# Altium footprint library FootprintsComponentsPreCharge.PcbLib: 11 footprints
Each footprint in its own frame and in the unit in brackets; x right, y up, seen from the top. Pads: shape width x height; smd on the part's side, far side on the other; paste and mask are expansions set on the pad; w line width, h text height; cw(c..) or ccw(c..) is an arc to the next point about the centre after c.
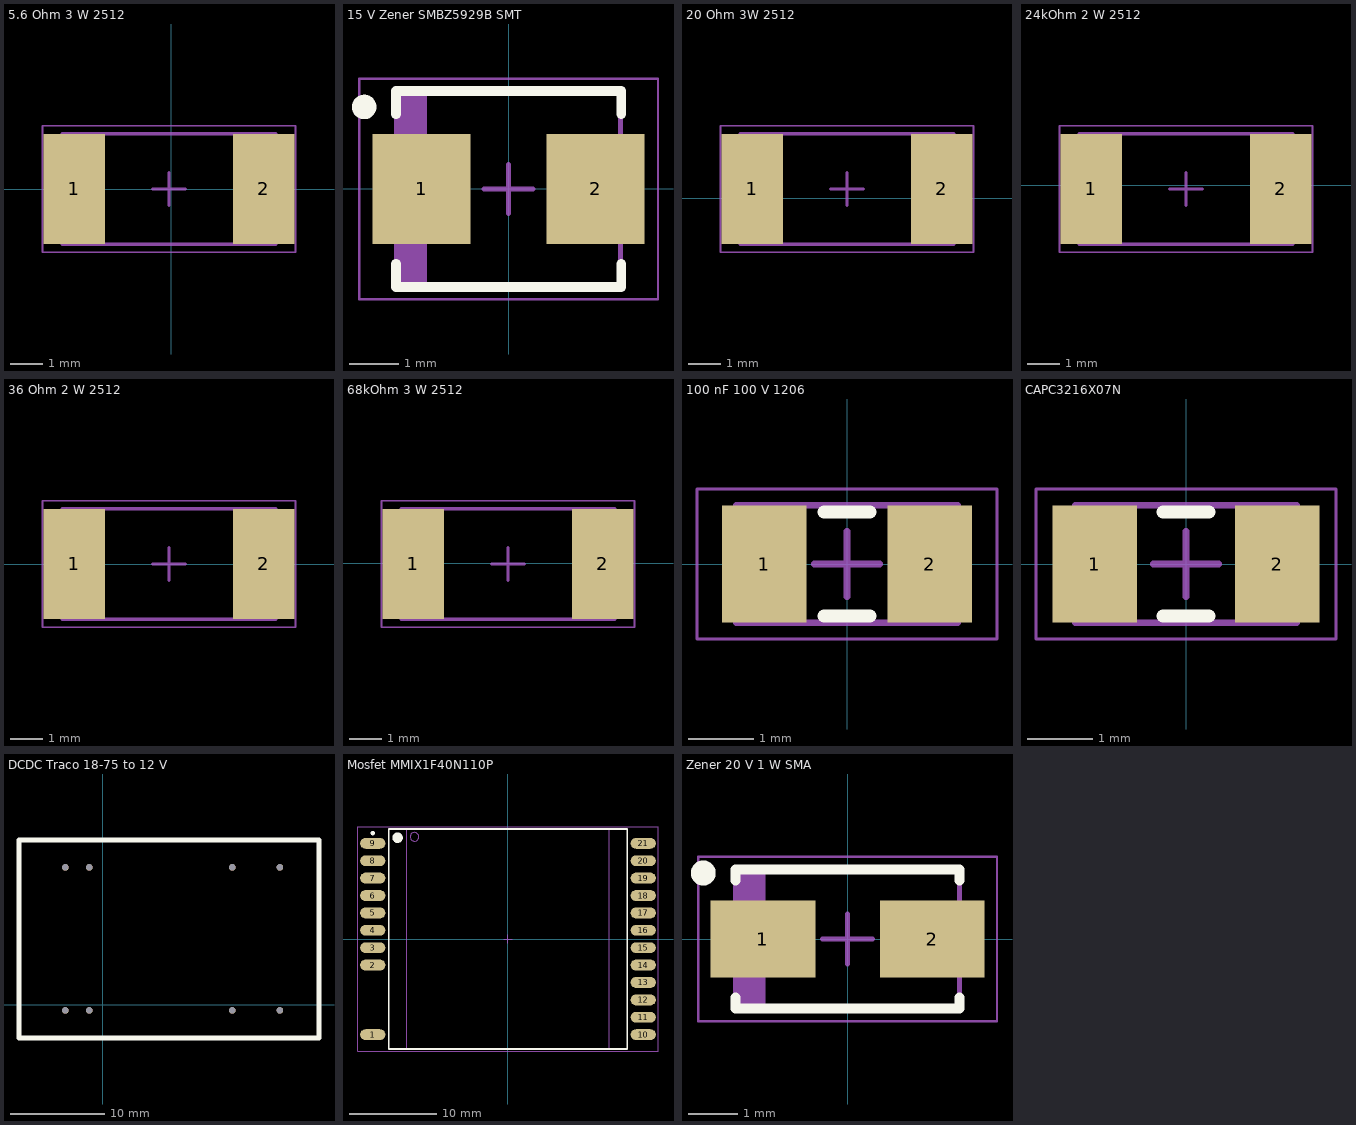
[diagram p0: the footprints below, top view; thin cyan lines are the x and y axes]

## 5.6 Ohm 3 W 2512 [mm] "5.6 Ohm 3 W 2512 TE con"
height 0.7
pads (2):
  rect 1.9x3.4 smd: 1(-2.989,0.005) 2(2.861,0.005)
Mechanical 13:
  lines w0.1: -3.364,-1.695 3.236,-1.695 3.236,1.705 -3.364,1.705 -3.364,-1.695
Mechanical 15:
  lines w0.05: -3.964,-1.945 3.836,-1.945 3.836,1.955 -3.964,1.955 -3.964,-1.945
  lines w0.1: -0.564,0.005 0.436,0.005 ; -0.064,-0.495 -0.064,0.505
3D body: height 0.7, standoff 0, extent 2.536,-1.695 3.236,1.705
3D body: height 0.7, standoff 0, extent -3.364,-1.695 -2.664,1.705
3D body: height 0.7, standoff 0, extent -2.664,-1.695 2.536,1.705

## 15 V Zener SMBZ5929B SMT [mm] "15 V Zener SMBZ5929B SMT DO 214AA"
height 2.44
pads (2):
  rect 2x2.25 smd: 1(-1.778,0) 2(1.778,0)
Top Overlay:
  circle w0.25: c-2.95,1.675 r0.125
  lines w0.2: -2.3,-1.525 -2.3,-2 2.3,-2 2.3,-1.525 ; -2.3,1.525 -2.3,2 2.3,2 2.3,1.525
Mechanical 13:
  rectangle: -2.285,-1.97 -1.67,1.97
  lines w0.1: -2.285,-1.97 -2.285,1.97 2.285,1.97 2.285,-1.97 -2.285,-1.97
Mechanical 15:
  lines w0.05: -3.05,-2.25 -3.05,2.25 3.05,2.25 3.05,-2.25 -3.05,-2.25
  lines w0.1: -0.5,0 0.5,0 ; 0,-0.5 0,0.5
3D body: height 2.44, standoff 0, extent -2.285,-1.97 2.285,1.97

## 20 Ohm 3W 2512 [mm] "20 Ohm 3 W 2512 3522 Series TE Con"
height 0.7
pads (2):
  rect 1.9x3.4 smd: 1(3.869,0.278) 2(9.719,0.278)
Mechanical 13:
  lines w0.1: 3.494,-1.422 10.094,-1.422 10.094,1.978 3.494,1.978 3.494,-1.422
Mechanical 15:
  lines w0.05: 2.894,-1.672 10.694,-1.672 10.694,2.228 2.894,2.228 2.894,-1.672
  lines w0.1: 6.294,0.278 7.294,0.278 ; 6.794,-0.222 6.794,0.778
3D body: height 0.7, standoff 0, extent 9.394,-1.422 10.094,1.978
3D body: height 0.7, standoff 0, extent 3.494,-1.422 4.194,1.978
3D body: height 0.7, standoff 0, extent 4.194,-1.422 9.394,1.978

## 24kOhm 2 W 2512 [mm] "24kOhm 2 W 2512 TE Con"
height 0.7
pads (2):
  rect 1.9x3.4 smd: 1(3.869,-0.122) 2(9.719,-0.122)
Mechanical 13:
  lines w0.1: 3.494,-1.822 10.094,-1.822 10.094,1.578 3.494,1.578 3.494,-1.822
Mechanical 15:
  lines w0.05: 2.894,-2.072 10.694,-2.072 10.694,1.828 2.894,1.828 2.894,-2.072
  lines w0.1: 6.294,-0.122 7.294,-0.122 ; 6.794,-0.622 6.794,0.378
3D body: height 0.7, standoff 0, extent 9.394,-1.822 10.094,1.578
3D body: height 0.7, standoff 0, extent 3.494,-1.822 4.194,1.578
3D body: height 0.7, standoff 0, extent 4.194,-1.822 9.394,1.578

## 36 Ohm 2 W 2512 [mm] "36 Ohm 2 W 2512 TE con"
height 0.7
pads (2):
  rect 1.9x3.4 smd: 1(3.107,0.005) 2(8.957,0.005)
Mechanical 13:
  lines w0.1: 2.732,-1.695 9.332,-1.695 9.332,1.705 2.732,1.705 2.732,-1.695
Mechanical 15:
  lines w0.05: 2.132,-1.945 9.932,-1.945 9.932,1.955 2.132,1.955 2.132,-1.945
  lines w0.1: 5.532,0.005 6.532,0.005 ; 6.032,-0.495 6.032,0.505
3D body: height 0.7, standoff 0, extent 8.632,-1.695 9.332,1.705
3D body: height 0.7, standoff 0, extent 2.732,-1.695 3.432,1.705
3D body: height 0.7, standoff 0, extent 3.432,-1.695 8.632,1.705

## 68kOhm 3 W 2512 [mm] "68kOhm 3 W 2512 TE Con 3522 series"
height 0.7
pads (2):
  rect 1.9x3.4 smd: 1(4.069,-0.022) 2(9.919,-0.022)
Mechanical 13:
  lines w0.1: 3.694,-1.722 3.694,1.678 10.294,1.678 10.294,-1.722 3.694,-1.722
Mechanical 15:
  lines w0.05: 3.094,-1.972 3.094,1.928 10.894,1.928 10.894,-1.972 3.094,-1.972
  lines w0.1: 6.494,-0.022 7.494,-0.022 ; 6.994,-0.522 6.994,0.478
3D body: height 0.7, standoff 0, extent 4.394,-1.722 9.594,1.678
3D body: height 0.7, standoff 0, extent 3.694,-1.722 4.394,1.678
3D body: height 0.7, standoff 0, extent 9.594,-1.722 10.294,1.678

## 100 nF 100 V 1206 [mm] "100 nF 100 V 1206"
height 0.7
pads (2):
  rect 1.3x1.8 smd: 1(-1.27,0) 2(1.27,0)
Top Overlay:
  lines w0.2: -0.35,-0.8 0.35,-0.8 ; -0.35,0.8 0.35,0.8
Mechanical 13:
  lines w0.1: -1.7,-0.9 -1.7,0.9 1.7,0.9 1.7,-0.9 -1.7,-0.9
Mechanical 15:
  lines w0.05: -2.3,-1.15 -2.3,1.15 2.3,1.15 2.3,-1.15 -2.3,-1.15
  lines w0.1: -0.5,0 0.5,0 ; 0,-0.5 0,0.5
3D body: height 0.7, standoff 0, extent -1.2,-0.9 1.2,0.9
3D body: height 0.7, standoff 0, extent -1.7,-0.9 -1.2,0.9
3D body: height 0.7, standoff 0, extent 1.2,-0.9 1.7,0.9

## CAPC3216X07N [mm] "Chip Capacitor, 2-Leads, Body 3,20x1,60mm, IPC Medium Density"
height 0.7
pads (2):
  rect 1.3x1.8 smd: 1(-1.4,0) 2(1.4,0)
Top Overlay:
  lines w0.2: -0.35,-0.8 0.35,-0.8 ; -0.35,0.8 0.35,0.8
Mechanical 13:
  lines w0.1: -1.7,-0.9 -1.7,0.9 1.7,0.9 1.7,-0.9 -1.7,-0.9
Mechanical 15:
  lines w0.05: -2.3,-1.15 -2.3,1.15 2.3,1.15 2.3,-1.15 -2.3,-1.15
  lines w0.1: -0.5,0 0.5,0 ; 0,-0.5 0,0.5
3D body: height 0.7, standoff 0, extent -1.2,-0.9 1.2,0.9
3D body: height 0.7, standoff 0, extent -1.7,-0.9 -1.2,0.9
3D body: height 0.7, standoff 0, extent 1.2,-0.9 1.7,0.9

## DCDC Traco 18-75 to 12 V [mm] "DCDC Traco 18-75 to 12 V"
height 0.7
pads (8):
  round 0.7 hole 0.7: 2(-3.96,-0.6) 3(-1.42,-0.6) 9(13.82,-0.6) 11(18.9,-0.6) 14(18.9,14.64) 16(13.82,14.64) 22(-1.42,14.64) 23(-3.96,14.64)
Top Overlay:
  lines w0.508: -8.9,-3.55 -8.9,17.57 23.06,17.57 23.06,-3.55 -8.9,-3.55

## Mosfet MMIX1F40N110P [mm] "Power Mosfet MMIX1F40N110P IXYS 1100 V 24 A"
height 5.3
pads (21):
  oval 2.9x1.25 smd: 1(-15.55,-11) 2(-15.55,-3) 3(-15.55,-1) 4(-15.55,1) 5(-15.55,3) 6(-15.55,5) 7(-15.55,7) 8(-15.55,9) 9(-15.55,11) 10(15.55,-11) 11(15.55,-9) 12(15.55,-7) 13(15.55,-5) 14(15.55,-3) 15(15.55,-1) 16(15.55,1) 17(15.55,3) 18(15.55,5) 19(15.55,7) 20(15.55,9) 21(15.55,11)
Top Overlay:
  circle w0.6: c-12.7,11.65 r0.3
  circle w0.25: c-15.55,12.175 r0.125
  lines w0.2: -13.7,-12.65 13.7,-12.65 13.7,12.65 -13.7,12.65 -13.7,-12.65
Mechanical 13:
  circle w0.1: c-10.75,11.75 r0.5
  lines w0.1: -11.65,-12.65 11.65,-12.65 11.65,12.65 -11.65,12.65 -11.65,-12.65
Mechanical 15:
  lines w0.05: -17.25,-12.9 17.25,-12.9 17.25,12.9 -17.25,12.9 -17.25,-12.9
  lines w0.1: -0.5,0 0.5,0 ; 0,-0.5 0,0.5
3D body: height 5.3, standoff 1.6, extent -11.65,-12.65 11.65,12.65

## Zener 20 V 1 W SMA [mm] "Zener 20 V 1 W SMA"
height 2.29
pads (2):
  rect 2.1x1.55 smd: 1(-1.7,0) 2(1.7,0)
Top Overlay:
  circle w0.25: c-2.9,1.325 r0.125
  lines w0.2: -2.25,-1.175 -2.25,-1.4 2.25,-1.4 2.25,-1.175 ; -2.25,1.175 -2.25,1.4 2.25,1.4 2.25,1.175
Mechanical 13:
  rectangle: -2.25,-1.395 -1.645,1.395
  lines w0.1: -2.25,-1.395 -2.25,1.395 2.25,1.395 2.25,-1.395 -2.25,-1.395
Mechanical 15:
  lines w0.05: -3,-1.65 -3,1.65 3,1.65 3,-1.65 -3,-1.65
  lines w0.1: -0.5,0 0.5,0 ; 0,-0.5 0,0.5
3D body: height 2.29, standoff 0, extent -2.25,-1.395 2.25,1.395